# Altium schematic symbol library CD4093BEE4.SchLib: 1 symbol
Pins are listed as number, name and electrical type; pins without a type are passive.

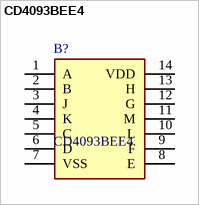
[diagram p0: symbol CD4093BEE4]

## CD4093BEE4
designator B?
IC GATE NAND 4CH 2-INP 14DIP; Manufacturer_Name: Texas Instruments; Geometry.Height: 5.08mm; Mouser Part Number: 595-CD4093BEE4; Mouser Price/Stock: https://www.mouser.co.uk/ProductDetail/Texas-Instruments/CD4093BEE4?qs=LSR%252BNeaw%2FwC39NlVGrbLWQ%3D%3D; Manufacturer_Part_Number: CD4093BEE4; Datasheet Link: http://www.ti.com/general/docs/suppproductinfo.tsp?distId=10&gotoUrl=http%3A%2F%2Fwww.ti.com%2Flit%2Fgpn%2Fcd4093b
footprint DIP794W53P254L1930H508Q14N
pins: 1 A, 2 B, 3 J, 4 K, 5 C, 6 D, 7 VSS, 8 E, 9 F, 10 L, 11 M, 12 G, 13 H, 14 VDD